# Altium footprint library SAMD21_Main_PCB_Lib.PcbLib: 13 footprints
Each footprint in its own frame and in the unit in brackets; x right, y up, seen from the top. Pads: shape width x height; smd on the part's side, far side on the other; paste and mask are expansions set on the pad; w line width, h text height; cw(c..) or ccw(c..) is an arc to the next point about the centre after c.
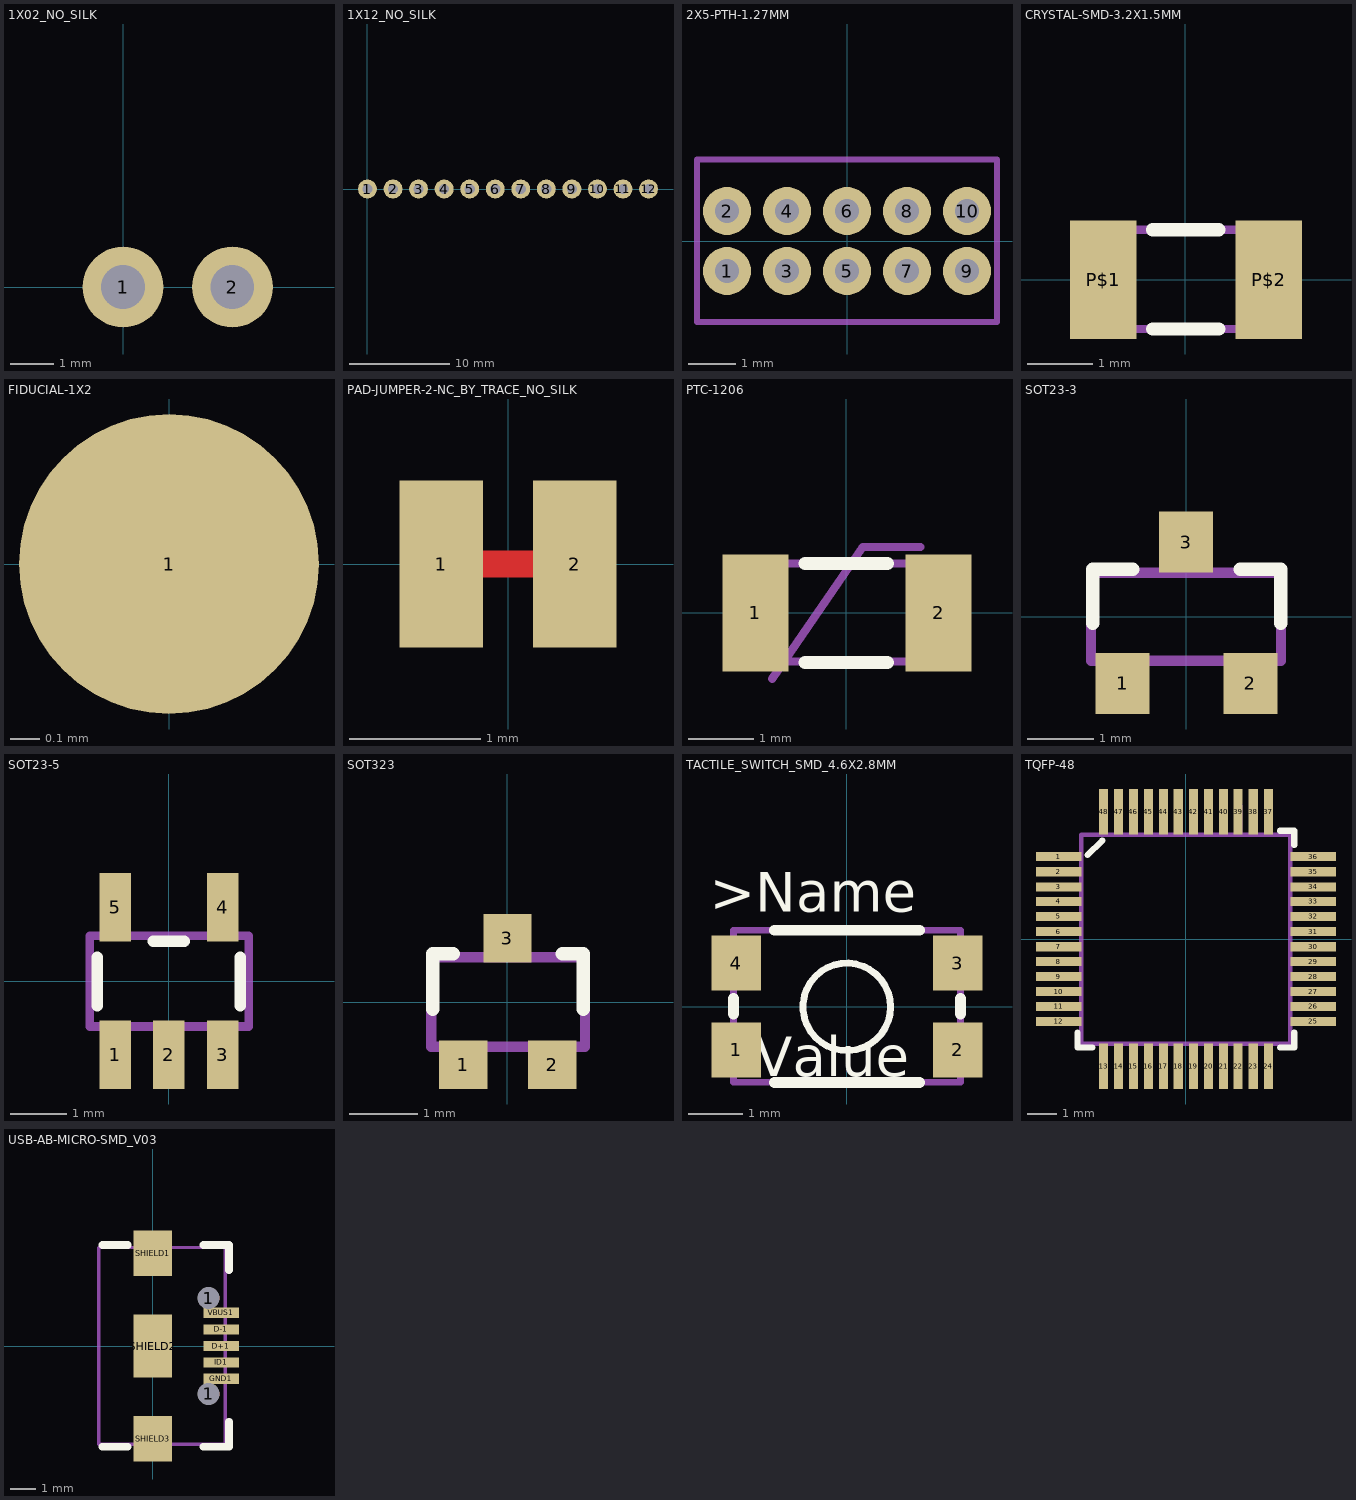
[diagram p0: the footprints below, top view; thin cyan lines are the x and y axes]

## 1X02_NO_SILK [mil] "1X02_NO_SILK"
pads (2):
  round 74 hole 40: 1(0,0) 2(100,0)
Top Overlay:
Mechanical 16:
  rectangle: -10,-10 10,10
  rectangle: 90,-10 110,10

## 1X12_NO_SILK [mil] "1X12_NO_SILK"
pads (12):
  round 74 hole 40: 1(0,0) 2(100,0) 3(200,0) 4(300,0) 5(400,0) 6(500,0) 7(600,0) 8(700,0) 9(800,0) 10(900,0) 11(1000,0) 12(1100,0)

## 2X5-PTH-1.27MM [mil] "2X5-PTH-1.27MM"
pads (10):
  round 40 hole 20: 1(-100,-25) 2(-100,25) 3(-50,-25) 4(-50,25) 5(0,-25) 6(0,25) 7(50,-25) 8(50,25) 9(100,-25) 10(100,25)
Top Overlay:
Mechanical 16:
  lines w5: -125,-67.52 -125,68 125,68 125,-67.52 -125,-67.52

## CRYSTAL-SMD-3.2X1.5MM [mil] "CRYSTAL-SMD-3.2X1.5MM"
pads (2):
  rect 40x71 smd: P$1(-49.21,0) P$2(50,0)
Top Overlay:
  lines w8: -19.68,-29.53 20,-29.53 ; -19.68,30 20,30
Mechanical 16:
  lines w5: -62.99,-29.53 63,-29.53 63,30 -62.99,30 -62.99,-29.53

## FIDUCIAL-1X2 [mil] "FIDUCIAL-1X2"
pads (1):
  rrect100% 40x40 smd: 1(0,0)

## PAD-JUMPER-2-NC_BY_TRACE_NO_SILK [mil] "PAD-JUMPER-2-NC_BY_TRACE_NO_SILK"
pads (2):
  rect 25x50 smd: 1(-20,0) 2(20,0)
Top Layer:
  lines w8: -15,0 15,0
Bottom Overlay:
  text ">NAME" at 0,35 h24.8
  text ">VALUE" at 0,-35 h24.8

## PTC-1206 [mil] "PTC-1206"
pads (2):
  rect 40x71 smd: 1(-55.12,0) 2(56,0)
Top Overlay:
  lines w8: -25,-30 25,-30 ; -25,30 25,30
Mechanical 16:
  lines w5: -45,-40 10,40 45,40 ; -59.06,-29.53 60,-29.53 60,30 -59.06,30 -59.06,-29.53

## SOT23-3 [mil] "SOT23-3"
pads (3):
  rect 32x36 smd: 1(-37.4,-39.37) 2(38,-39.37) 3(0,44)
Top Overlay:
  lines w8: -55.12,-3.94 -55.12,28 -31.5,28 ; 32,28 56,28 56,-3.94
Mechanical 16:
  lines w6: -56,-26 -56,26 56,26 56,-26 -56,-26
3D body: height 51.18, standoff 0, extent -57.08,-55.12 57.09,55.12

## SOT23-5 [mil] "SOT23-5"
pads (5):
  rect 22x48 smd: 1(-37.4,-51.19) 2(0,-51.19) 3(38,-51.19) 4(38,52) 5(-37.4,52)
Top Overlay:
  lines w8: -50,-16.91 -50,17 ; -10.57,28 11,28 ; 50,-16.91 50,17
Mechanical 16:
  rectangle: -47.24,34 -27.56,60
  rectangle: 28,34 48,60
  rectangle: 28,-59.06 48,-33.46
  rectangle: -9.84,-59.06 10,-33.46
  rectangle: -47.24,-59.06 -27.56,-33.46
  lines w6: -55.12,-31.5 -55.12,32 56,32 56,-31.5 -55.12,-31.5
3D body: height 41.65, standoff -1.65, extent -59.05,-49.2 59.06,49.22

## SOT323 [mil] "SOT323"
pads (3):
  rect 28x28 smd: 1(-25.59,-36.42) 2(26,-36.42) 3(0,37)
Top Overlay:
  lines w8: -43.31,-3.94 -43.31,28 -31.5,28 ; 32,28 44,28 44,-3.94
Mechanical 16:
  lines w6: -44.19,-26 45,-26 45,26 -44.19,26 -44.19,-26
3D body: height 43.31, standoff 0, extent -43.3,-44.19 43.31,44.2

## TACTILE_SWITCH_SMD_4.6X2.8MM [mil] "TACTILE_SWITCH_SMD_4.6X2.8MM"
pads (4):
  rect 36x40 smd: 1(-80.71,-31.5) 2(81,-31.5) 3(81,32) 4(-80.71,32)
Top Overlay:
  circle w5: c0,0 r32
  lines w8: -82.68,-5.12 -82.68,6 ; -52.68,-55.12 53,-55.12 ; -52.68,56 53,56 ; 83,-5.12 83,6
  text ">Name" at -100,60 h49.6
  text ">Value" at -100,-60 h49.6
Mechanical 16:
  rectangle: -90.55,20 -82.68,44
  rectangle: -90.55,-43.31 -82.68,-19.68
  region: 91,-19.68 83,-19.68 83,-43.31 91,-43.31
  region: 91,44 83,44 83,20 91,20
  lines w5: -82.68,-55.12 -82.68,56 83,56 83,-55.12 -82.68,-55.12

## TQFP-48 [mil] "TQFP-48"
pads (48):
  rect 60x12 smd: 1(-167.32,109) 2(-167.32,89) 3(-167.32,69) 4(-167.32,50) 5(-167.32,30) 6(-167.32,10) 7(-167.32,-9.84) 8(-167.32,-29.53) 9(-167.32,-49.21) 10(-167.32,-68.9) 11(-167.32,-88.58) 12(-167.32,-108.27) 25(168,-108.27) 26(168,-88.58) 27(168,-68.9) 28(168,-49.21) 29(168,-29.53) 30(168,-9.84) 31(168,10) 32(168,30) 33(168,50) 34(168,69) 35(168,89) 36(168,109)
  rect 12x60 smd: 13(-108.27,-167.32) 14(-88.58,-167.32) 15(-68.9,-167.32) 16(-49.21,-167.32) 17(-29.53,-167.32) 18(-9.84,-167.32) 19(10,-167.32) 20(30,-167.32) 21(50,-167.32) 22(69,-167.32) 23(89,-167.32) 24(109,-167.32) 37(109,168) 38(89,168) 39(69,168) 40(50,168) 41(30,168) 42(10,168) 43(-9.84,168) 44(-29.53,168) 45(-49.21,168) 46(-68.9,168) 47(-88.58,168) 48(-108.27,168)
Top Overlay:
  lines w8: -142.8,-123.11 -142.8,-142.8 -123.11,-142.8 ; -129.69,111 -110,130 ; 124,-142.8 143,-142.8 143,-123.11 ; 124,143 143,143 143,124
Mechanical 16:
  region: -113.27,177.69 -113.27,138.31 -103.27,138.31 -103.27,177.69
  region: -93.58,177.69 -93.58,138.32 -83.58,138.32 -83.58,177.69
  region: -73.9,177.69 -73.9,138.32 -63.9,138.32 -63.9,177.69
  region: -54.21,177.69 -54.21,138.31 -44.21,138.31 -44.21,177.69
  region: -34.53,177.69 -34.53,138.31 -24.53,138.31 -24.53,177.69
  region: 103.5,177.5 103.5,138.5 113.5,138.5 113.5,177.5
  region: 84,178 84,138 94,138 94,178
  region: 64.5,177.5 64.5,138.5 74.5,138.5 74.5,177.5
  region: 44.5,177.5 44.5,138.5 54.5,138.5 54.5,177.5
  region: 25,178 25,138 35,138 35,178
  region: -14.76,177.76 -14.76,138.24 -4.76,138.24 -4.76,177.76
  region: 5.08,177.92 5.08,138.08 15.08,138.08 15.08,177.92
  region: 178,114 138,114 138,104 178,104
  region: 178,94 138,94 138,84 178,84
  region: 178,74 138,74 138,64 178,64
  region: 178,55 138,55 138,45 178,45
  region: 178,35 138,35 138,25 178,25
  region: 178,-103.35 138,-103.35 138,-113.19 178,-113.19
  region: 178,-83.66 138,-83.66 138,-93.5 178,-93.5
  region: 178,-63.98 138,-63.98 138,-73.82 178,-73.82
  region: 178,-44.29 138,-44.29 138,-54.13 178,-54.13
  region: 178,-24.61 138,-24.61 138,-34.45 178,-34.45
  region: 178,15 138,15 138,5 178,5
  region: 178,-4.92 138,-4.92 138,-14.76 178,-14.76
  region: 113.42,-176.98 113.42,-137.98 103.58,-137.98 103.58,-176.98
  region: 93.92,-177.48 93.92,-137.48 84.08,-137.48 84.08,-177.48
  region: 74.42,-176.98 74.42,-137.98 64.58,-137.98 64.58,-176.98
  region: 54.42,-176.98 54.42,-137.98 44.58,-137.98 44.58,-176.98
  region: 34.92,-177.48 34.92,-137.48 25.08,-137.48 25.08,-177.48
  region: -103.35,-177.17 -103.35,-137.8 -113.19,-137.8 -113.19,-177.17
  region: -83.66,-177.17 -83.66,-137.8 -93.5,-137.8 -93.5,-177.17
  region: -63.98,-177.17 -63.98,-137.8 -73.82,-137.8 -73.82,-177.17
  region: -44.29,-177.17 -44.29,-137.8 -54.13,-137.8 -54.13,-177.17
  region: -24.61,-177.17 -24.61,-137.8 -34.45,-137.8 -34.45,-177.17
  region: 15,-177.4 15,-137.56 5.16,-137.56 5.16,-177.4
  region: -4.84,-177.24 -4.84,-137.72 -14.69,-137.72 -14.69,-177.24
  rectangle: -177.17,-113.19 -137.8,-103.35
  rectangle: -177.17,-93.5 -137.8,-83.66
  rectangle: -177.17,-73.82 -137.8,-63.98
  rectangle: -177.17,-54.13 -137.8,-44.29
  rectangle: -177.17,-34.45 -137.8,-24.61
  rectangle: -177.17,104 -137.8,114
  rectangle: -177.17,84 -137.8,94
  rectangle: -177.17,64 -137.8,74
  rectangle: -177.17,45 -137.8,55
  rectangle: -177.17,25 -137.8,35
  rectangle: -177.17,-14.76 -137.8,-4.92
  rectangle: -177.17,5 -137.8,15
  lines w6: -137.8,-137.8 138,-137.8 138,138 -137.8,138 -137.8,-137.8
3D body: height 43.31, standoff 0, extent -177.5,-177.5 177.51,177.51

## USB-AB-MICRO-SMD_V03 [mil] "USB-AB-MICRO-SMD_V03"
pads (10):
  round 34 hole 34: 1(87,-74.8) 1(87,75)
  rect 56x16 smd: D+1(107,0) D-1(107,26) GND1(107,-51.18) ID1(107,-25.59) VBUS1(107,52)
  rect 60x71 smd: SHIELD1(0,145) SHIELD3(0,-144.88)
  rect 60x99 smd: SHIELD2(0,0)
Top Overlay:
  lines w12: -78.74,-157.48 -39.37,-157.48 ; -78.74,158 -39.37,158 ; 79,-157.48 119,-157.48 119,-118.11 ; 79,158 118,158 ; 119,119 119,158
Top Paste:
  rectangle: -29.53,110 30,181
  rectangle: -13.78,-29.53 14,30
  rectangle: -29.53,-180.47 30,-109.61
Top Solder:
  rectangle: -33.46,106 34,185
  rectangle: -33.46,-184.41 34,-105.67
  rectangle: -33.46,-53.15 34,54
Mechanical 14:
  lines w5: -84.65,-153.54 -84.65,154 113,154 113,-153.54 -84.65,-153.54
Mechanical 16: